# Altium integrated library Microchip.IntLib: 27 symbols
Pins are listed as number, name and electrical type; pins without a type are passive.

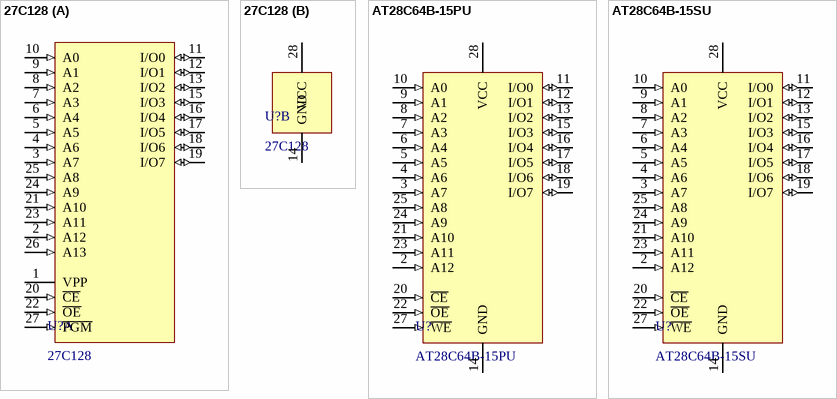
[diagram p0: symbols 27C128 to AT28C64B-15SU]

## 27C128
designator U?
128K (16K x 8) CMOS EPROM
footprint PDIP28
part A pins: 1 VPP (power), 2 A12 (in), 3 A7 (in), 4 A6 (in), 5 A5 (in), 6 A4 (in), 7 A3 (in), 8 A2 (in), 9 A1 (in), 10 A0 (in), 11 I/O0 (io), 12 I/O1 (io), 13 I/O2 (io), 15 I/O3 (io), 16 I/O4 (io), 17 I/O5 (io), 18 I/O6 (io), 19 I/O7 (io), 20 ~{CE} (in), 21 A10 (in), 22 ~{OE} (in), 23 A11 (in), 24 A9 (in), 25 A8 (in), 26 A13 (in), 27 ~{PGM} (in)
part B pins: 14 GND (power), 28 VCC (power)

## AT28C64B-15PU
designator U?
64K (8K x 8) Parallel EEPROM
footprint PDIP28
pins: 2 A12 (in), 3 A7 (in), 4 A6 (in), 5 A5 (in), 6 A4 (in), 7 A3 (in), 8 A2 (in), 9 A1 (in), 10 A0 (in), 11 I/O0 (io), 12 I/O1 (io), 13 I/O2 (io), 14 GND (power), 15 I/O3 (io), 16 I/O4 (io), 17 I/O5 (io), 18 I/O6 (io), 19 I/O7 (io), 20 ~{CE} (in), 21 A10 (in), 22 ~{OE} (in), 23 A11 (in), 24 A9 (in), 25 A8 (in), 27 ~{WE} (in), 28 VCC (power)

## AT28C64B-15SU
designator U?
64K (8K x 8) Parallel EEPROM
footprint SOIC28
pins: 2 A12 (in), 3 A7 (in), 4 A6 (in), 5 A5 (in), 6 A4 (in), 7 A3 (in), 8 A2 (in), 9 A1 (in), 10 A0 (in), 11 I/O0 (io), 12 I/O1 (io), 13 I/O2 (io), 14 GND (power), 15 I/O3 (io), 16 I/O4 (io), 17 I/O5 (io), 18 I/O6 (io), 19 I/O7 (io), 20 ~{CE} (in), 21 A10 (in), 22 ~{OE} (in), 23 A11 (in), 24 A9 (in), 25 A8 (in), 27 ~{WE} (in), 28 VCC (power)


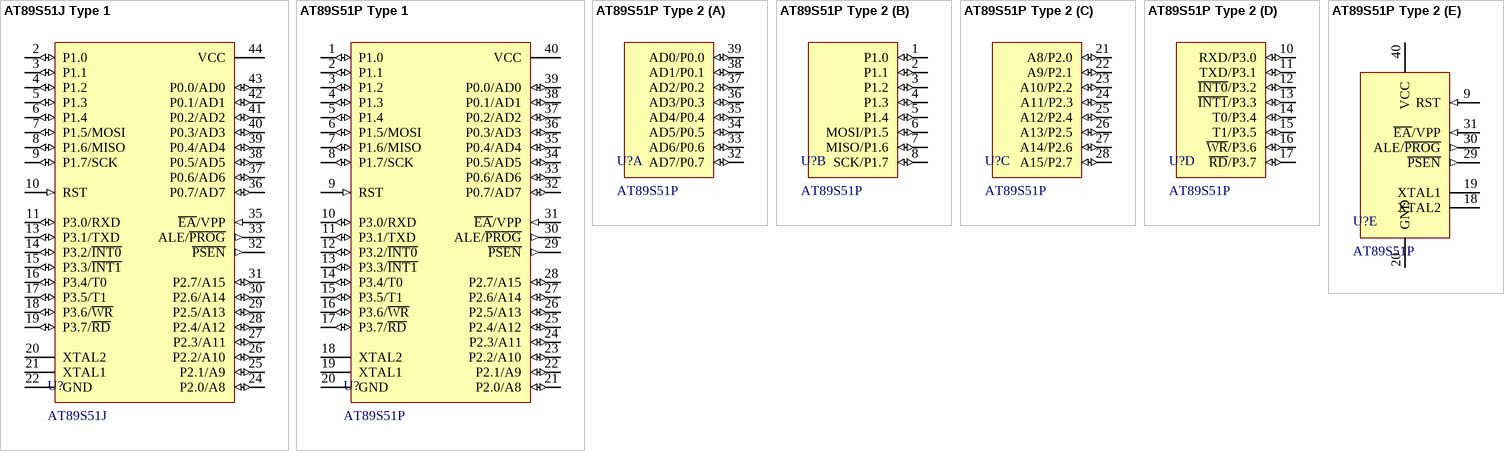
[diagram p1: symbols AT89S51J Type 1 to AT89S51P Type 2]

## AT89S51J Type 1
designator U?, comment AT89S51J
8-bit Microcontroller with 4K Bytes In-System Programmable Flash
footprint PLCC44
pins: 2 P1.0 (io), 3 P1.1 (io), 4 P1.2 (io), 5 P1.3 (io), 6 P1.4 (io), 7 P1.5/MOSI (io), 8 P1.6/MISO (io), 9 P1.7/SCK (io), 10 RST (in), 11 P3.0/RXD (io), 13 P3.1/TXD (io), 14 P3.2/~{INT0} (io), 15 P3.3/~{INT1} (io), 16 P3.4/T0 (io), 17 P3.5/T1 (io), 18 P3.6/~{WR} (io), 19 P3.7/~{RD} (io), 20 XTAL2, 21 XTAL1, 22 GND (power), 24 P2.0/A8 (io), 25 P2.1/A9 (io), 26 P2.2/A10 (io), 27 P2.3/A11 (io), 28 P2.4/A12 (io), 29 P2.5/A13 (io), 30 P2.6/A14 (io), 31 P2.7/A15 (io), 32 ~{PSEN} (out), 33 ALE/~{PROG} (out), 35 ~{EA}/VPP (in), 36 P0.7/AD7 (io), 37 P0.6/AD6 (io), 38 P0.5/AD5 (io), 39 P0.4/AD4 (io), 40 P0.3/AD3 (io), 41 P0.2/AD2 (io), 42 P0.1/AD1 (io), 43 P0.0/AD0 (io), 44 VCC (power)

## AT89S51P Type 1
designator U?, comment AT89S51P
8-bit Microcontroller with 4K Bytes In-System Programmable Flash
footprint PDIP40
pins: 1 P1.0 (io), 2 P1.1 (io), 3 P1.2 (io), 4 P1.3 (io), 5 P1.4 (io), 6 P1.5/MOSI (io), 7 P1.6/MISO (io), 8 P1.7/SCK (io), 9 RST (in), 10 P3.0/RXD (io), 11 P3.1/TXD (io), 12 P3.2/~{INT0} (io), 13 P3.3/~{INT1} (io), 14 P3.4/T0 (io), 15 P3.5/T1 (io), 16 P3.6/~{WR} (io), 17 P3.7/~{RD} (io), 18 XTAL2, 19 XTAL1, 20 GND (power), 21 P2.0/A8 (io), 22 P2.1/A9 (io), 23 P2.2/A10 (io), 24 P2.3/A11 (io), 25 P2.4/A12 (io), 26 P2.5/A13 (io), 27 P2.6/A14 (io), 28 P2.7/A15 (io), 29 ~{PSEN} (out), 30 ALE/~{PROG} (out), 31 ~{EA}/VPP (in), 32 P0.7/AD7 (io), 33 P0.6/AD6 (io), 34 P0.5/AD5 (io), 35 P0.4/AD4 (io), 36 P0.3/AD3 (io), 37 P0.2/AD2 (io), 38 P0.1/AD1 (io), 39 P0.0/AD0 (io), 40 VCC (power)

## AT89S51P Type 2
designator U?, comment AT89S51P
8-bit Microcontroller with 4K Bytes In-System Programmable Flash
footprint PDIP40
part A pins: 32 AD7/P0.7 (io), 33 AD6/P0.6 (io), 34 AD5/P0.5 (io), 35 AD4/P0.4 (io), 36 AD3/P0.3 (io), 37 AD2/P0.2 (io), 38 AD1/P0.1 (io), 39 AD0/P0.0 (io)
part B pins: 1 P1.0 (io), 2 P1.1 (io), 3 P1.2 (io), 4 P1.3 (io), 5 P1.4 (io), 6 MOSI/P1.5 (io), 7 MISO/P1.6 (io), 8 SCK/P1.7 (io)
part C pins: 21 A8/P2.0 (io), 22 A9/P2.1 (io), 23 A10/P2.2 (io), 24 A11/P2.3 (io), 25 A12/P2.4 (io), 26 A13/P2.5 (io), 27 A14/P2.6 (io), 28 A15/P2.7 (io)
part D pins: 10 RXD/P3.0 (io), 11 TXD/P3.1 (io), 12 ~{INT0}/P3.2 (io), 13 ~{INT1}/P3.3 (io), 14 T0/P3.4 (io), 15 T1/P3.5 (io), 16 ~{WR}/P3.6 (io), 17 ~{RD}/P3.7 (io)
part E pins: 9 RST (in), 18 XTAL2, 19 XTAL1, 20 GND (power), 29 ~{PSEN} (out), 30 ALE/~{PROG} (out), 31 ~{EA}/VPP (in), 40 VCC (power)


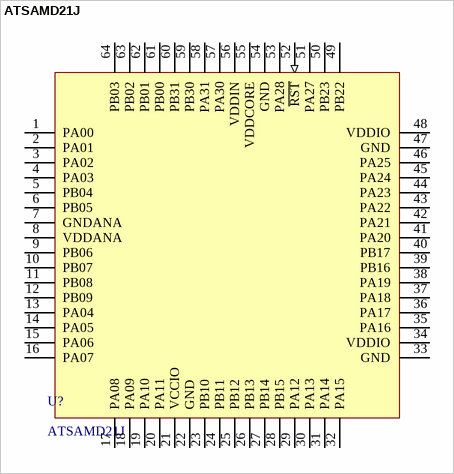
[diagram p2: symbol ATSAMD21J]

## ATSAMD21J
designator U?
footprint TQFP64
pins: 1 PA00, 2 PA01, 3 PA02, 4 PA03, 5 PB04, 6 PB05, 7 GNDANA (power), 8 VDDANA (power), 9 PB06, 10 PB07, 11 PB08, 12 PB09, 13 PA04, 14 PA05, 15 PA06, 16 PA07, 17 PA08, 18 PA09, 19 PA10, 20 PA11, 21 VCCIO (power), 22 GND (power), 23 PB10, 24 PB11, 25 PB12, 26 PB13, 27 PB14, 28 PB15, 29 PA12, 30 PA13, 31 PA14, 32 PA15, 33 GND (power), 34 VDDIO (power), 35 PA16, 36 PA17, 37 PA18, 38 PA19, 39 PB16, 40 PB17, 41 PA20, 42 PA21, 43 PA22, 44 PA23, 45 PA24, 46 PA25, 47 GND (power), 48 VDDIO (power), 49 PB22, 50 PB23, 51 PA27, 52 ~{RST} (in), 53 PA28, 54 GND (power), 55 VDDCORE (power), 56 VDDIN (power), 57 PA30, 58 PA31, 59 PB30, 60 PB31, 61 PB00, 62 PB01, 63 PB02, 64 PB03


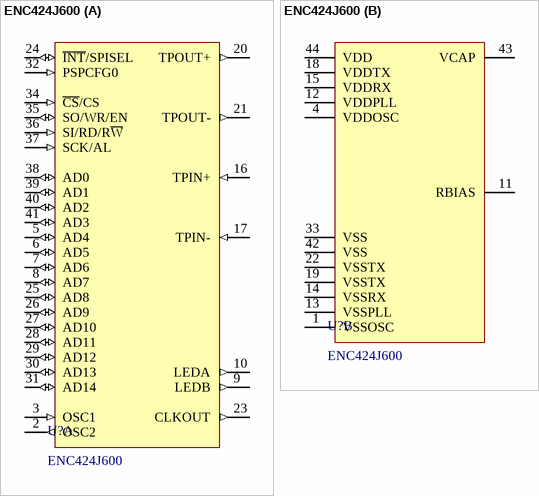
[diagram p3: symbol ENC424J600]

## ENC424J600
designator U?
Stand-Alone 10/100 Ethernet Controllerwith SPI or Parallel Interface
footprint TQFP44
part A pins: 2 OSC2 (out), 3 OSC1 (in), 5 AD4 (io), 6 AD5 (io), 7 AD6 (io), 8 AD7 (io), 9 LEDB (out), 10 LEDA (out), 16 TPIN+ (in), 17 TPIN- (in), 20 TPOUT+ (out), 21 TPOUT- (out), 23 CLKOUT (out), 24 ~{INT}/SPISEL (io), 25 AD8 (io), 26 AD9 (io), 27 AD10 (io), 28 AD11 (io), 29 AD12 (io), 30 AD13 (io), 31 AD14 (io), 32 PSPCFG0 (in), 34 ~{CS}/CS (in), 35 SO/WR/EN (io), 36 SI/RD/R~{W} (in), 37 SCK/AL (in), 38 AD0 (io), 39 AD1 (io), 40 AD2 (io), 41 AD3 (io)
part B pins: 1 VSSOSC (power), 4 VDDOSC (power), 11 RBIAS, 12 VDDPLL (power), 13 VSSPLL (power), 14 VSSRX (power), 15 VDDRX (power), 18 VDDTX (power), 19 VSSTX (power), 22 VSSTX (power), 33 VSS (power), 42 VSS (power), 43 VCAP (power), 44 VDD (power)


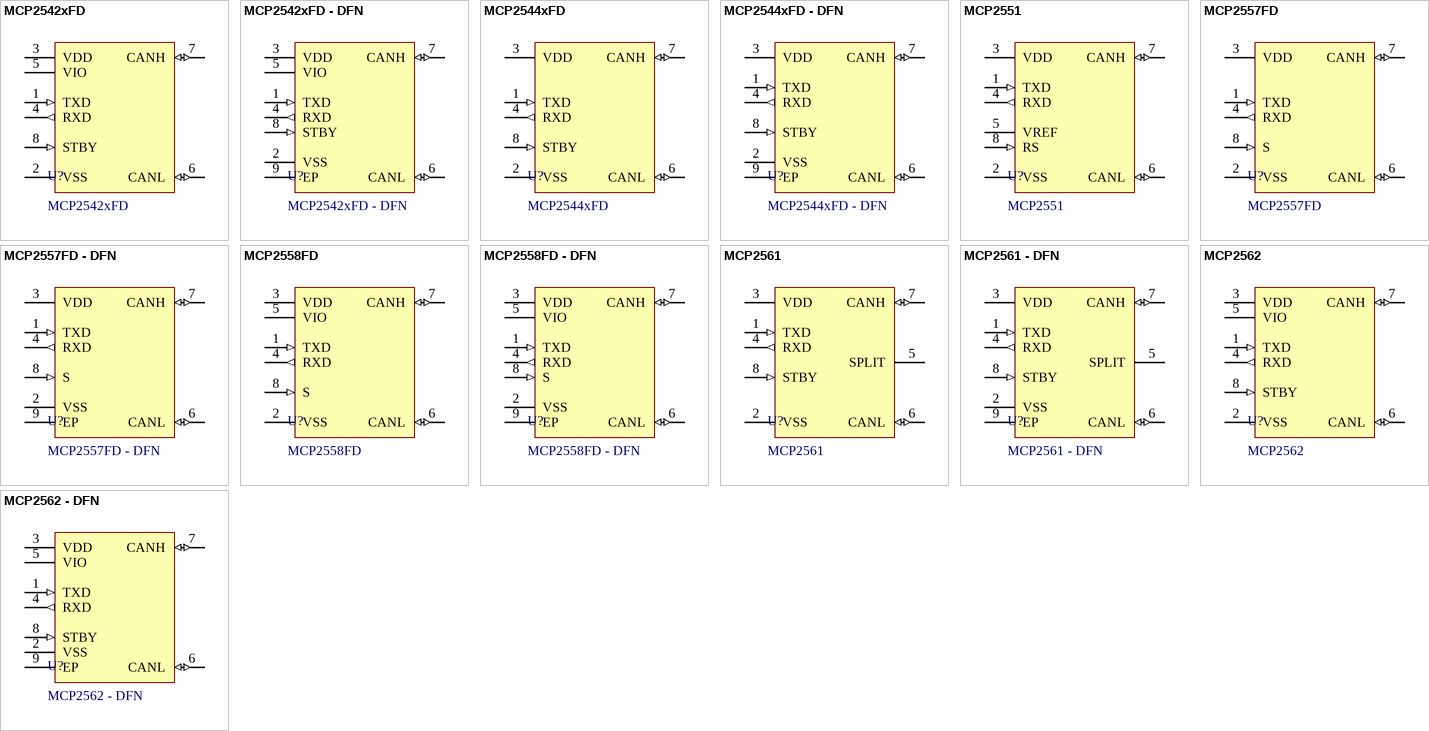
[diagram p4: symbols MCP2542xFD to MCP2562 - DFN]

## MCP2542xFD
designator U?
CAN FD Transmitter with Wake-Up Pattern Option
footprint SOIC8
pins: 1 TXD (in), 2 VSS (power), 3 VDD (power), 4 RXD (out), 5 VIO (power), 6 CANL (io), 7 CANH (io), 8 STBY (in)

## MCP2542xFD - DFN
designator U?
CAN FD Transmitter with Wake-Up Pattern Option
footprint DFN 3x3 Thermal
footprint DFN 2x3 Thermal
pins: 1 TXD (in), 2 VSS (power), 3 VDD (power), 4 RXD (out), 5 VIO (power), 6 CANL (io), 7 CANH (io), 8 STBY (in), 9 EP (power)

## MCP2544xFD
designator U?
CAN FD Transmitter with Wake-Up Pattern Option
footprint SOIC8
pins: 1 TXD (in), 2 VSS (power), 3 VDD (power), 4 RXD (out), 6 CANL (io), 7 CANH (io), 8 STBY (in)

## MCP2544xFD - DFN
designator U?
CAN FD Transmitter with Wake-Up Pattern Option
footprint DFN 3x3 Thermal
footprint DFN 2x3 Thermal
pins: 1 TXD (in), 2 VSS (power), 3 VDD (power), 4 RXD (out), 6 CANL (io), 7 CANH (io), 8 STBY (in), 9 EP (power)

## MCP2551
designator U?
High-Speed CAN Transceiver
footprint SOIC8
footprint PDIP8
pins: 1 TXD (in), 2 VSS (power), 3 VDD (power), 4 RXD (out), 5 VREF, 6 CANL (io), 7 CANH (io), 8 RS (in)

## MCP2557FD
designator U?
CAN FD Transceiver with Silent Mode
footprint SOIC8
pins: 1 TXD (in), 2 VSS (power), 3 VDD (power), 4 RXD (out), 6 CANL (io), 7 CANH (io), 8 S (in)

## MCP2557FD - DFN
designator U?
CAN FD Transceiver with Silent Mode
footprint DFN 2x3 Thermal
footprint DFN 3x3 Thermal
pins: 1 TXD (in), 2 VSS (power), 3 VDD (power), 4 RXD (out), 6 CANL (io), 7 CANH (io), 8 S (in), 9 EP (power)

## MCP2558FD
designator U?
CAN FD Transceiver with Silent Mode
footprint SOIC8
pins: 1 TXD (in), 2 VSS (power), 3 VDD (power), 4 RXD (out), 5 VIO (power), 6 CANL (io), 7 CANH (io), 8 S (in)

## MCP2558FD - DFN
designator U?
CAN FD Transceiver with Silent Mode
footprint DFN 2x3 Thermal
footprint DFN 3x3 Thermal
pins: 1 TXD (in), 2 VSS (power), 3 VDD (power), 4 RXD (out), 5 VIO (power), 6 CANL (io), 7 CANH (io), 8 S (in), 9 EP (power)

## MCP2561
designator U?
High-Speed CAN Transceiver
footprint SOIC8
footprint PDIP8
pins: 1 TXD (in), 2 VSS (power), 3 VDD (power), 4 RXD (out), 5 SPLIT, 6 CANL (io), 7 CANH (io), 8 STBY (in)

## MCP2561 - DFN
designator U?
High-Speed CAN Transceiver
footprint DFN 3x3 Thermal
pins: 1 TXD (in), 2 VSS (power), 3 VDD (power), 4 RXD (out), 5 SPLIT, 6 CANL (io), 7 CANH (io), 8 STBY (in), 9 EP (power)

## MCP2562
designator U?
High-Speed CAN Transceiver
footprint SOIC8
footprint PDIP8
pins: 1 TXD (in), 2 VSS (power), 3 VDD (power), 4 RXD (out), 5 VIO (power), 6 CANL (io), 7 CANH (io), 8 STBY (in)

## MCP2562 - DFN
designator U?
High-Speed CAN Transceiver
footprint DFN 3x3 Thermal
pins: 1 TXD (in), 2 VSS (power), 3 VDD (power), 4 RXD (out), 5 VIO (power), 6 CANL (io), 7 CANH (io), 8 STBY (in), 9 EP (power)


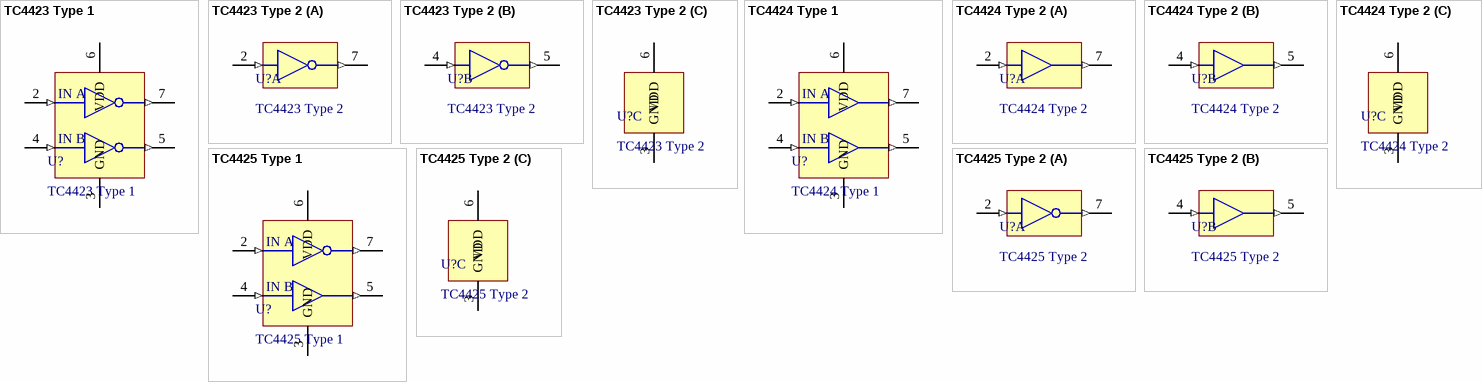
[diagram p5: symbols TC4423 Type 1 to TC4425 Type 2]

## TC4423 Type 1
designator U?
3A Dual High-Speed Power MOSFET Drivers
footprint PDIP8
pins: 2 INA (in), 3 GND (power), 4 IN B (in), 5 OUT B (out), 6 VDD (power), 7 OUT A (out)
text: IN A

## TC4423 Type 2
designator U?
3A Dual High-Speed Power MOSFET Drivers
footprint PDIP8
part A pins: 2 INA (in), 7 OUT A (out)
part B pins: 4 IN B (in), 5 OUT B (out)
part C pins: 3 GND (power), 6 VDD (power)

## TC4424 Type 1
designator U?
3A Dual High-Speed Power MOSFET Drivers
footprint PDIP8
pins: 2 INA (in), 3 GND (power), 4 IN B (in), 5 OUT B (out), 6 VDD (power), 7 OUT A (out)
text: IN A

## TC4424 Type 2
designator U?
3A Dual High-Speed Power MOSFET Drivers
footprint PDIP8
part A pins: 2 INA (in), 7 OUT A (out)
part B pins: 4 IN B (in), 5 OUT B (out)
part C pins: 3 GND (power), 6 VDD (power)

## TC4425 Type 1
designator U?
3A Dual High-Speed Power MOSFET Drivers
footprint PDIP8
pins: 2 INA (in), 3 GND (power), 4 IN B (in), 5 OUT B (out), 6 VDD (power), 7 OUT A (out)
text: IN A

## TC4425 Type 2
designator U?
3A Dual High-Speed Power MOSFET Drivers
footprint PDIP8
part A pins: 2 INA (in), 7 OUT A (out)
part B pins: 4 IN B (in), 5 OUT B (out)
part C pins: 3 GND (power), 6 VDD (power)